# Altium footprint library RLC.PcbLib: 45 footprints (part 1 of 3)
Each footprint in its own frame and in the unit in brackets; x right, y up, seen from the top. Pads: shape width x height; smd on the part's side, far side on the other; paste and mask are expansions set on the pad; w line width, h text height; cw(c..) or ccw(c..) is an arc to the next point about the centre after c.
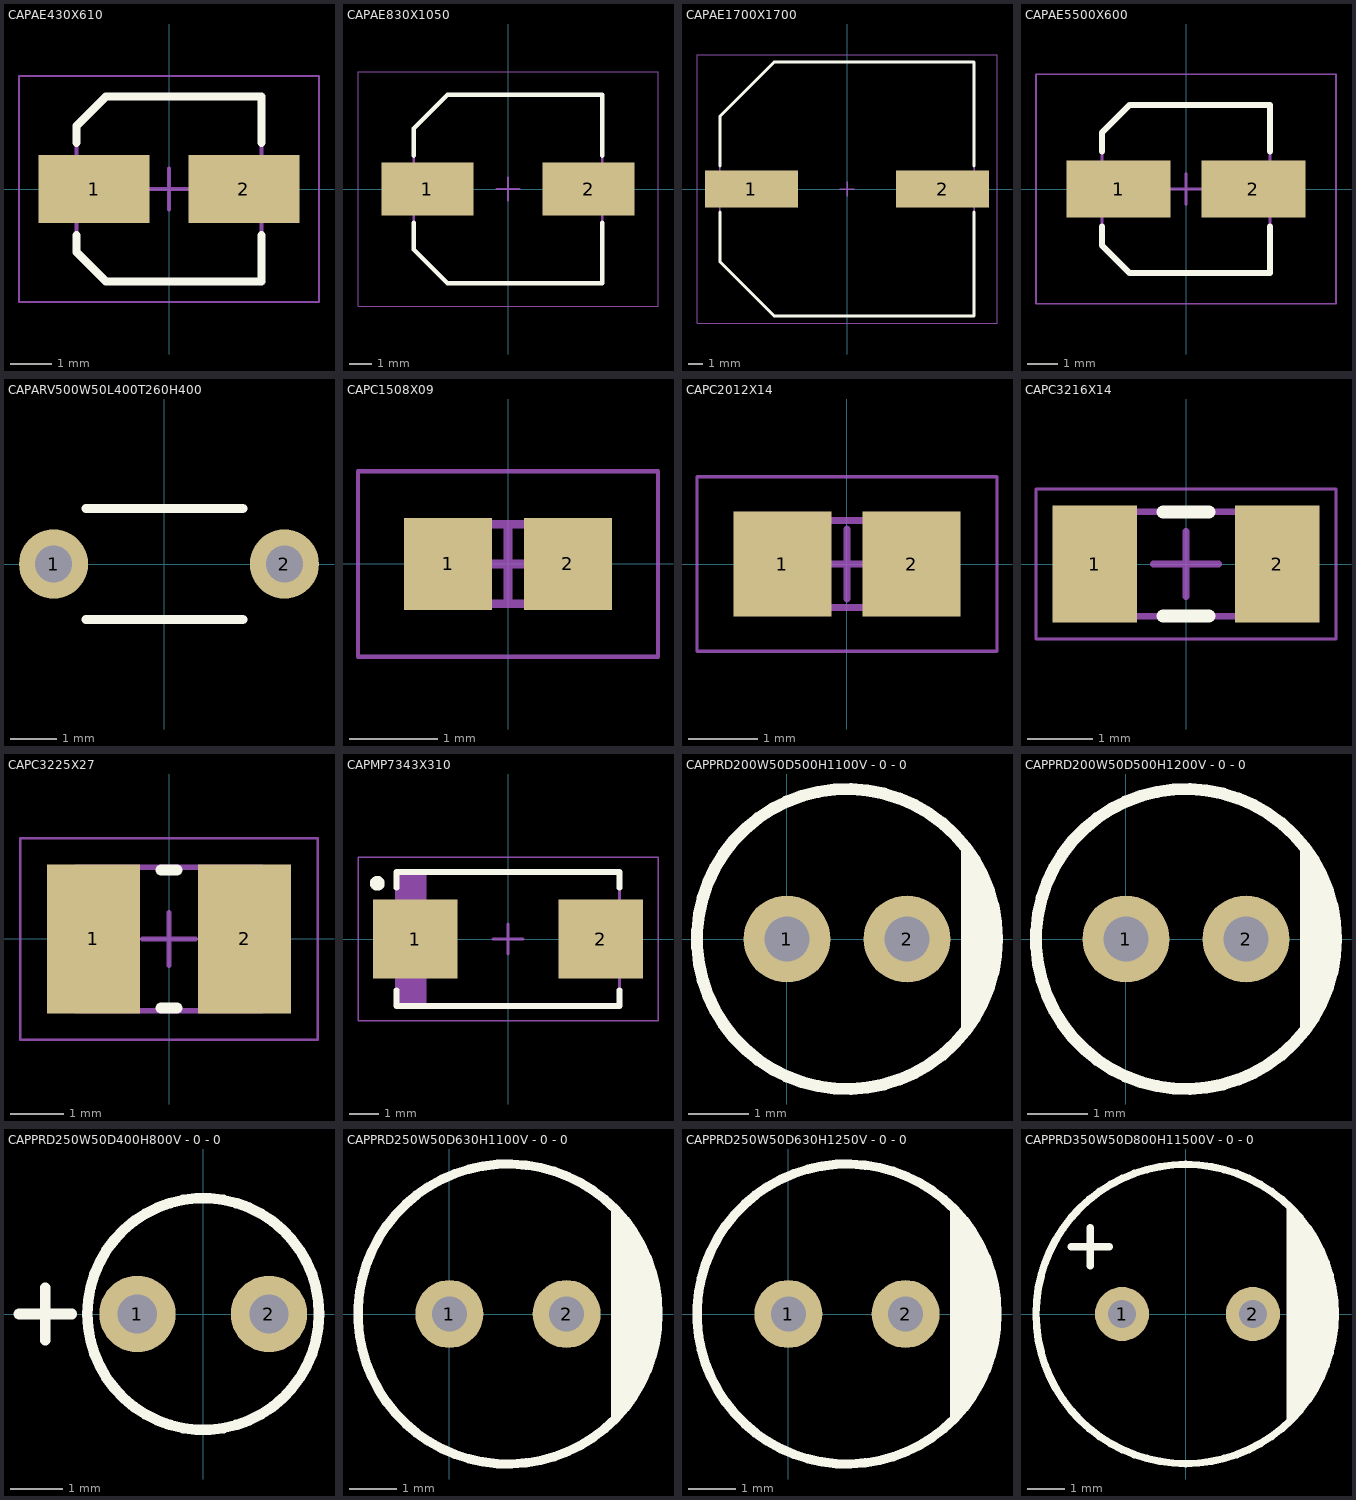
[diagram p0: the footprints below, top view; thin cyan lines are the x and y axes]

## CAPAE430X610 [mm] "Aluminum Electrolytic Capacitor, Body 4,30x4,30x6,10mm, IPC Medium Density() (NICHICON)"
height 6.1
pads (2):
  rect 2.7x1.65 smd: 1(-1.825,0) 2(1.825,0)
Top Overlay:
  lines w0.2: -2.25,-1.125 -2.25,-1.538 -1.538,-2.25 2.25,-2.25 2.25,-1.125 ; -2.25,1.125 -2.25,1.538 -1.538,2.25 2.25,2.25 2.25,1.125
3D Body:
  lines w0.1: -2.25,-1.538 -2.25,1.538 -1.538,2.25 2.25,2.25 2.25,-2.25 -1.538,-2.25 -2.25,-1.538
Board:
  lines w0.05: -3.65,-2.75 3.65,-2.75 3.65,2.75 -3.65,2.75 -3.65,-2.75
  lines w0.1: -0.5,0 0.5,0 ; 0,-0.5 0,0.5
3D body: height 6.1, standoff 0, extent -2.25,-2.25 2.25,2.243
3D body: height 2.04, standoff 0, extent -2.25,-2.25 2.25,2.25

## CAPAE830X1050 [mm] "Aluminum Electrolytic Capacitor, Body 8,30x8,30x10,50mm, IPC Low Density"
height 10.5
pads (2):
  rect 4.05x2.35 smd: 1(-3.55,0) 2(3.55,0)
Top Overlay:
  lines w0.2: -4.15,-1.475 -4.15,-2.663 -2.663,-4.15 4.15,-4.15 4.15,-1.475 ; -4.15,1.475 -4.15,2.662 -2.663,4.15 4.15,4.15 4.15,1.475
3D Body:
  lines w0.1: -4.15,-2.663 -4.15,2.662 -2.663,4.15 4.15,4.15 4.15,-4.15 -2.663,-4.15 -4.15,-2.663
Board:
  lines w0.05: -6.6,-5.15 6.6,-5.15 6.6,5.15 -6.6,5.15 -6.6,-5.15
  lines w0.1: -0.5,0 0.5,0 ; 0,-0.5 0,0.5
3D body: height 10.5, standoff 0, extent -4,-4 4,3.994
3D body: height 3.5, standoff 0, extent -4.15,-4.15 4.15,4.15

## CAPAE1700X1700 [mm] "Aluminum Electrolytic Capacitor, Body 17,00x17,00x17,00mm, IPC Medium Density (Panasonic)"
height 17
pads (2):
  rect 6.3x2.5 smd: 1(-6.475,0) 2(6.475,0)
Top Overlay:
  lines w0.2: -8.6,-1.55 -8.6,-4.925 -4.925,-8.6 8.6,-8.6 8.6,-1.55 ; -8.6,1.55 -8.6,4.925 -4.925,8.6 8.6,8.6 8.6,1.55
3D Body:
  lines w0.1: -8.6,-4.925 -4.925,-8.6 8.6,-8.6 8.6,8.6 -4.925,8.6 -8.6,4.925 -8.6,-4.925
Board:
  lines w0.05: -10.15,-9.1 -10.15,9.1 10.15,9.1 10.15,-9.1 -10.15,-9.1
  lines w0.1: -0.5,0 0.5,0 ; 0,-0.5 0,0.5
3D body: height 5.67, standoff 0, extent -8.6,-8.6 8.6,8.6
3D body: height 17, standoff 0, extent -8.25,-8.25 8.25,8.244

## CAPAE5500X600 [mm] "Aluminum Electrolytic Capacitor, Body 5,30x5,30x6,00mm, IPC Low Density"
height 6
pads (2):
  rect 3.4x1.85 smd: 1(-2.2,0) 2(2.2,0)
Top Overlay:
  lines w0.2: -2.75,-1.225 -2.75,-1.837 -1.837,-2.75 2.75,-2.75 2.75,-1.225 ; -2.75,1.225 -2.75,1.837 -1.837,2.75 2.75,2.75 2.75,1.225
3D Body:
  lines w0.1: -2.75,-1.822 -2.75,1.837 -1.837,2.75 2.75,2.75 2.75,-2.75 -1.822,-2.75 -2.75,-1.822
Board:
  lines w0.05: -4.9,-3.75 4.9,-3.75 4.9,3.75 -4.9,3.75 -4.9,-3.75
  lines w0.1: -0.5,0 0.5,0 ; 0,-0.5 0,0.5
3D body: height 6, standoff 0, extent -2.75,-2.75 2.75,2.75
3D body: height 2, standoff 0, extent -2.75,-2.75 2.75,2.75

## CAPARV500W50L400T260H400 [mm] "Capacitor, Non Polarized Axial Rectangular"
height 4
pads (2):
  round 1.5 hole 0.8: 1(-2.4,0) 2(2.6,0)
Top Overlay:
  lines w0.2: -1.7,-1.2 1.7,-1.2 ; -1.7,1.2 1.7,1.2
3D body: height 4, standoff 1, extent -1.75,-1.3 1.75,1.3

## CAPC1508X09 [mm] "Chip Capacitor, 2-Leads, Body 1,55x0,80mm, IPC Low Density 0603"
height 0.9
pads (2):
  rect 1x1.04 smd: 1(-0.68,0) 2(0.68,0)
3D Body:
  lines w0.1: -0.85,-0.45 -0.85,0.45 0.85,0.45 0.85,-0.45 -0.85,-0.45
Board:
  lines w0.05: -1.7,-1.05 -1.7,1.05 1.7,1.05 1.7,-1.05 -1.7,-1.05
  lines w0.1: -0.45,0 0.45,0 ; 0,-0.45 0,0.45
3D body: height 0.9, standoff 0, extent -0.35,-0.45 0.35,0.45
3D body: height 0.9, standoff 0, extent -0.85,-0.45 -0.35,0.45
3D body: height 0.9, standoff 0, extent 0.35,-0.45 0.85,0.45

## CAPC2012X14 [mm] "Chip Capacitor, 2-Leads, Body 2,00x1,25mm, IPC Low Density 0805"
height 1.35
pads (2):
  rect 1.4x1.5 smd: 1(-0.925,0) 2(0.925,0)
TopAssy:
  lines w0.1: -1,-0.625 1,-0.625 1,0.625 -1,0.625 -1,-0.625
Board:
  lines w0.05: -2.15,-1.25 -2.15,1.25 2.15,1.25 2.15,-1.25 -2.15,-1.25
  lines w0.1: -0.5,0 0.5,0 ; 0,-0.5 0,0.5
3D body "User Library-CAPC2012X___.STEP": height 1.42, standoff 0, extent -1,-0.635 1,0.635

## CAPC3216X14 [mm] "Chip Capacitor, 2-Leads, Body 3,20x1,60mm, IPC Medium Density 1206"
height 1.35
pads (2):
  rect 1.3x1.8 smd: 1(-1.4,0) 2(1.4,0)
Top Overlay:
  lines w0.2: -0.35,-0.8 0.35,-0.8 ; -0.35,0.8 0.35,0.8
TopAssy:
  lines w0.1: -1.6,-0.8 -1.6,0.8 1.6,0.8 1.6,-0.8 -1.6,-0.8
Board:
  lines w0.05: -2.3,-1.15 2.3,-1.15 2.3,1.15 -2.3,1.15 -2.3,-1.15
  lines w0.1: -0.5,0 0.5,0 ; 0,-0.5 0,0.5
3D body "User Library-CAPC3216X___.STEP": height 1.42, standoff 0, extent -1.6,-0.81 1.6,0.81

## CAPC3225X27 [mm] "Chip Capacitor, 2-Leads, Body 3,20x2,50mm, IPC Low Density 1210"
height 2.7
pads (2):
  rect 1.75x2.8 smd: 1(-1.425,0) 2(1.425,0)
Top Overlay:
  lines w0.2: -0.15,-1.3 0.15,-1.3 ; -0.15,1.3 0.15,1.3
3D Body:
  lines w0.1: -1.75,-1.35 -1.75,1.35 1.75,1.35 1.75,-1.35 -1.75,-1.35
Board:
  lines w0.05: -2.8,-1.9 -2.8,1.9 2.8,1.9 2.8,-1.9 -2.8,-1.9
  lines w0.1: -0.5,0 0.5,0 ; 0,-0.5 0,0.5
3D body: height 2.7, standoff 0, extent -1.15,-1.35 1.15,1.35
3D body: height 2.7, standoff 0, extent -1.75,-1.35 -1.15,1.35
3D body: height 2.7, standoff 0, extent 1.15,-1.35 1.75,1.35

## CAPMP7343X310 [mm] "Molded Capacitor, 2-Leads, Body 7,30x4,30mm, IPC Low Density 2917"
height 3.1
pads (2):
  rect 2.85x2.65 smd: 1(-3.125,0) 2(3.125,0)
Top Overlay:
  circle w0.25: c-4.4,1.875 r0.125
  lines w0.2: -3.75,-1.725 -3.75,-2.25 3.75,-2.25 3.75,-1.725 ; -3.75,1.725 -3.75,2.25 3.75,2.25 3.75,1.725
3D Body:
  rectangle: -3.75,-2.25 -2.741,2.25
  lines w0.1: -3.75,-2.25 -3.75,2.25 3.75,2.25 3.75,-2.25 -3.75,-2.25
Board:
  lines w0.05: -5.05,-2.75 -5.05,2.75 5.05,2.75 5.05,-2.75 -5.05,-2.75
  lines w0.1: -0.5,0 0.5,0 ; 0,-0.5 0,0.5
3D body "CAPMP7343X31M(TANTALUM-D).step": height 3.1, standoff 0, extent -3.97,-2.25 3.97,2.25

## CAPPRD200W50D500H1100V - 0 - 0 [mm] "CAP ALUM RADIAL DIA 5MM HEIGHT 11MM PITCH 2MM"
height 11
pads (2):
  round 1.45 hole 0.75: 1(0,0) 2(2,0)
Top Overlay:
  circle w0.2: c1,0 r2.5
  region: 3,-1.5 3.119,-1.381 3.306,-1.102 3.434,-0.791 3.5,-0.461 3.5,-0.293 3.5,0.2 3.5,0.343 3.444,0.623 3.335,0.886 3.177,1.123 3.076,1.224 3,1.3
  lines w0.2: 3,-1.5 3,1.5
3D body: height 11, standoff 0, extent -1.5,-2.497 3.5,2.497

## CAPPRD200W50D500H1200V - 0 - 0 [mm] "CAP ALUM RADIAL DIA 5MM HEIGHT 12MM PITCH 2MM"
height 12
pads (2):
  round 1.45 hole 0.75: 1(0,0) 2(2,0)
Top Overlay:
  circle w0.2: c1,0 r2.5
  region: 3,-1.5 3.119,-1.381 3.306,-1.102 3.434,-0.791 3.5,-0.461 3.5,-0.293 3.5,0.2 3.5,0.343 3.444,0.623 3.335,0.886 3.177,1.123 3.076,1.224 3,1.3
  lines w0.2: 3,-1.5 3,1.5
3D body: height 12, standoff 0, extent -1.5,-2.497 3.5,2.497

## CAPPRD250W50D400H800V - 0 - 0 [mm] "CAP ALUM RADIAL DIA 4MM HEIGHT 8MM PITCH 2.5MM"
pads (2):
  round 1.45 hole 0.75: 1(-1.25,0) 2(1.25,0)
Top Overlay:
  circle w0.2: c0,0 r2.2
  lines w0.2: -3.5,0 -2.5,0 ; -3,-0.5 -3,0.5
3D body: height 8, standoff 0, extent -2,-2 2,2

## CAPPRD250W50D630H1100V - 0 - 0 [mm] "CAP ALUM RADIAL DIA 6.3MM HEIGHT 11MM PITCH 2.5MM"
height 11
pads (2):
  round 1.45 hole 0.75: 1(0,0) 2(2.5,0)
Top Overlay:
  circle w0.2: c1.25,0 r3.2
  region: 3.45,2.3 3.45,-2.3 3.85,-1.9 3.993,-1.757 4.217,-1.422 4.371,-1.049 4.45,-0.653 4.45,-0.451 4.45,0.248 4.45,0.498 4.352,0.989 4.161,1.451 3.883,1.867 3.706,2.044
3D body: height 11, standoff 0, extent -1.9,-3.147 4.4,3.147

## CAPPRD250W50D630H1250V - 0 - 0 [mm] "CAP ALUM RADIAL DIA 6.3MM HEIGHT 12.5MM PITCH 2.5MM"
height 12.5
pads (2):
  round 1.45 hole 0.75: 1(0,0) 2(2.5,0)
Top Overlay:
  circle w0.2: c1.25,0 r3.2
  region: 3.45,2.3 3.45,-2.3 3.85,-1.9 3.993,-1.757 4.217,-1.422 4.371,-1.049 4.45,-0.653 4.45,-0.451 4.45,0.248 4.45,0.498 4.352,0.989 4.161,1.451 3.883,1.867 3.706,2.044
3D body: height 12.5, standoff 0, extent -1.9,-3.147 4.4,3.147

## CAPPRD350W50D800H11500V - 0 - 0 [mm] "CAP ALUM RADIAL DIA 8MM HEIGHT 11.5MM PITCH 3.5MM"
height 11.5
pads (2):
  round 1.45 hole 0.75: 1(-1.7,0) 2(1.8,0)
Top Overlay:
  circle w0.2: c0,0 r4
  region: 2.7,3 2.7,-3 3.497,-1.885 3.739,-1.219 3.8,-0.933 4.023,0.106 3.8,1.46
  lines w0.2: -3.058,1.8 -2.042,1.8 ; -2.55,1.292 -2.55,2.308
3D body: height 10, standoff 0, extent 6.3,2.4 6.3,2.4
3D body: height 11.5, standoff 0, extent -4,-3.997 4,3.997